# Altium footprint library SparkFun-RF.PCBLIB: 68 footprints (part 3 of 5)
Each footprint in its own frame and in the unit in brackets; x right, y up, seen from the top. Pads: shape width x height; smd on the part's side, far side on the other; paste and mask are expansions set on the pad; w line width, h text height; cw(c..) or ccw(c..) is an arc to the next point about the centre after c.
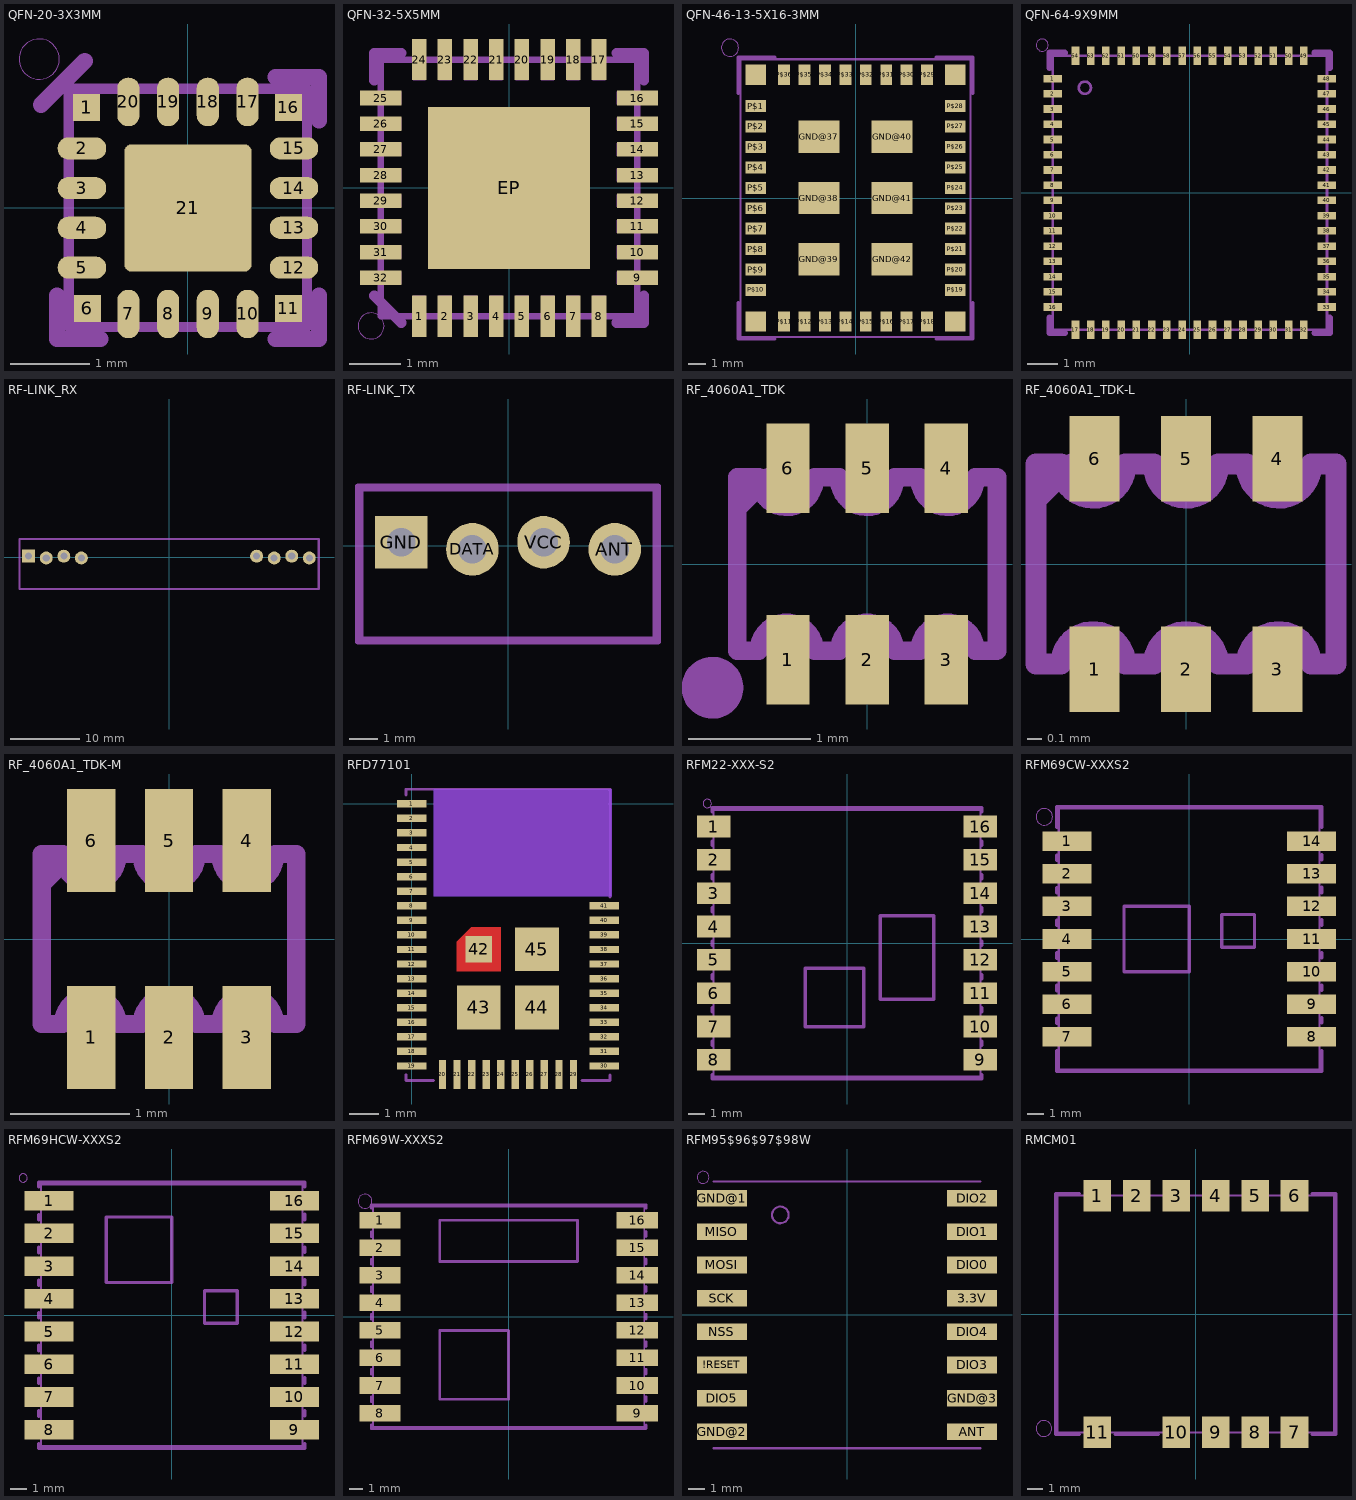
[diagram p2: the footprints below, top view; thin cyan lines are the x and y axes]

## QFN-20-3X3MM [mm]
pads (21):
  rect 0.34x0.34 smd: 1(-1.275,1.265) 6(-1.265,-1.265) 11(1.265,-1.265) 16(1.265,1.265)
  rrect95% 0.61x0.28 smd: 2(-1.335,0.75) 3(-1.335,0.25) 4(-1.335,-0.25) 5(-1.335,-0.75) 12(1.335,-0.75) 13(1.335,-0.25) 14(1.335,0.25) 15(1.335,0.75)
  rrect95% 0.28x0.61 smd: 7(-0.75,-1.335) 8(-0.25,-1.335) 9(0.25,-1.335) 10(0.75,-1.335) 17(0.75,1.335) 18(0.25,1.335) 19(-0.25,1.335) 20(-0.75,1.335)
  rrect10% 1.6x1.6 smd paste+0 mask+0: 21(0,0)
Top Paste:
  region: -0.699,0.101 -0.699,0.676 -0.111,0.676 -0.111,0.101
  region: 0.049,0.104 0.049,0.676 0.66,0.676 0.66,0.104
  region: 0.046,-0.679 0.046,-0.072 0.656,-0.072 0.656,-0.679
  region: -0.692,-0.676 -0.692,-0.062 -0.098,-0.062 -0.098,-0.676
Top Solder:
  region: 0.73,0.73 0.73,-0.73 -0.73,-0.73 -0.73,0.73
tDocu:
  lines w0.127: -1.5,-1.5 1.5,-1.5 1.5,1.5 -1.5,1.5 -1.5,-1.5
tPlace:
  circle w0: c-1.873,1.873 r0.254
  lines w0.203: -1.85,1.3 -1.3,1.85 ; -1.65,-1.1 -1.65,-1.65 -1.1,-1.65 ; 1.1,-1.65 1.65,-1.65 1.65,-1.1 ; 1.1,1.65 1.65,1.65 1.65,1.1

## QFN-32-5X5MM [mil]
pads (33):
  rect 11.2x31.5 smd: 1(-68.9,-98.43) 2(-49.21,-98.43) 3(-29.53,-98.43) 4(-9.84,-98.43) 5(9.84,-98.43) 6(29.53,-98.43) 7(49.21,-98.43) 8(68.9,-98.43) 17(68.9,98.43) 18(49.21,98.43) 19(29.53,98.43) 20(9.84,98.43) 21(-9.84,98.43) 22(-29.53,98.43) 23(-49.21,98.43) 24(-68.9,98.43)
  rect 31.5x11.2 smd: 9(98.43,-68.9) 10(98.43,-49.21) 11(98.43,-29.53) 12(98.43,-9.84) 13(98.43,9.84) 14(98.43,29.53) 15(98.43,49.21) 16(98.43,68.9) 25(-98.43,68.9) 26(-98.43,49.21) 27(-98.43,29.53) 28(-98.43,9.84) 29(-98.43,-9.84) 30(-98.43,-29.53) 31(-98.43,-49.21) 32(-98.43,-68.9)
  rect 124.02x124.02 smd paste+0: EP(0,0)
Top Paste:
  region: -57.09,5.91 -57.09,57.09 -5.91,57.09 -5.91,5.91
  region: 5.91,57.09 57.09,57.09 57.09,5.91 5.91,5.91
  region: -5.91,-57.09 -57.09,-57.09 -57.09,-5.91 -5.91,-5.91
  region: 57.09,-5.91 57.09,-57.09 5.91,-57.09 5.91,-5.91
tDocu:
  region: -98.43,5.12 -98.43,14.57 -82.68,14.57 -82.68,5.12
  region: -98.43,-14.57 -98.43,-5.12 -82.68,-5.12 -82.68,-14.57
  region: -98.43,-34.25 -98.43,-24.8 -82.68,-24.8 -82.68,-34.25
  region: -98.43,-53.94 -98.43,-44.49 -82.68,-44.49 -82.68,-53.94
  region: -98.43,-73.62 -98.43,-64.17 -82.68,-64.17 -82.68,-73.62
  region: -98.43,24.8 -98.43,34.25 -82.68,34.25 -82.68,24.8
  region: -98.43,44.49 -98.43,53.94 -82.68,53.94 -82.68,44.49
  region: -98.43,64.17 -98.43,73.62 -82.68,73.62 -82.68,64.17
  region: 5.12,98.43 14.57,98.43 14.57,82.68 5.12,82.68
  region: -14.57,98.43 -5.12,98.43 -5.12,82.68 -14.57,82.68
  region: -34.25,98.43 -24.8,98.43 -24.8,82.68 -34.25,82.68
  region: -53.94,98.43 -44.49,98.43 -44.49,82.68 -53.94,82.68
  region: -73.62,98.43 -64.17,98.43 -64.17,82.68 -73.62,82.68
  region: 24.8,98.43 34.25,98.43 34.25,82.68 24.8,82.68
  region: 44.49,98.43 53.94,98.43 53.94,82.68 44.49,82.68
  region: 64.17,98.43 73.62,98.43 73.62,82.68 64.17,82.68
  region: -5.12,-98.43 -14.57,-98.43 -14.57,-82.68 -5.12,-82.68
  region: 14.57,-98.43 5.12,-98.43 5.12,-82.68 14.57,-82.68
  region: 34.25,-98.43 24.8,-98.43 24.8,-82.68 34.25,-82.68
  region: 53.94,-98.43 44.49,-98.43 44.49,-82.68 53.94,-82.68
  region: 73.62,-98.43 64.17,-98.43 64.17,-82.68 73.62,-82.68
  region: -24.8,-98.43 -34.25,-98.43 -34.25,-82.68 -24.8,-82.68
  region: -44.49,-98.43 -53.94,-98.43 -53.94,-82.68 -44.49,-82.68
  region: -64.17,-98.43 -73.62,-98.43 -73.62,-82.68 -64.17,-82.68
  region: 98.43,-5.12 98.43,-14.57 82.68,-14.57 82.68,-5.12
  region: 98.43,14.57 98.43,5.12 82.68,5.12 82.68,14.57
  region: 98.43,34.25 98.43,24.8 82.68,24.8 82.68,34.25
  region: 98.43,53.94 98.43,44.49 82.68,44.49 82.68,53.94
  region: 98.43,73.62 98.43,64.17 82.68,64.17 82.68,73.62
  region: 98.43,-24.8 98.43,-34.25 82.68,-34.25 82.68,-24.8
  region: 98.43,-44.49 98.43,-53.94 82.68,-53.94 82.68,-44.49
  region: 98.43,-64.17 98.43,-73.62 82.68,-73.62 82.68,-64.17
  lines w5: -98.43,-98.43 98.43,-98.43 98.43,98.43 -98.43,98.43 -98.43,-98.43
tPlace:
  circle w0: c-105.87,-105.87 r10
  lines w8: -103.43,-82.68 -82.68,-103.43 ; -103.43,82.68 -103.43,103.43 -82.68,103.43 ; 82.68,-103.43 103.43,-103.43 103.43,-82.68 ; 82.68,103.43 103.43,103.43 103.43,82.68

## QFN-46-13-5X16-3MM [mm]
pads (46):
  rect 2.4x1.9 smd: GND@37(-2.15,3.6) GND@38(-2.15,0) GND@39(-2.15,-3.6) GND@40(2.15,3.6) GND@41(2.15,0) GND@42(2.15,-3.6)
  rect 1.2x1.2 smd: GND@43(-5.85,7.25) GND@44(-5.85,-7.25) GND@45(5.85,-7.25) GND@46(5.85,7.25)
  rect 1.2x0.7 smd: P$1(-5.85,5.4) P$2(-5.85,4.2) P$3(-5.85,3) P$4(-5.85,1.8) P$5(-5.85,0.6) P$6(-5.85,-0.6) P$7(-5.85,-1.8) P$8(-5.85,-3) P$9(-5.85,-4.2) P$10(-5.85,-5.4) P$19(5.85,-5.4) P$20(5.85,-4.2) P$21(5.85,-3) P$22(5.85,-1.8) P$23(5.85,-0.6) P$24(5.85,0.6) P$25(5.85,1.8) P$26(5.85,3) P$27(5.85,4.2) P$28(5.85,5.4)
  rect 0.7x1.2 smd: P$11(-4.2,-7.25) P$12(-3,-7.25) P$13(-1.8,-7.25) P$14(-0.6,-7.25) P$15(0.6,-7.25) P$16(1.8,-7.25) P$17(3,-7.25) P$18(4.2,-7.25) P$29(4.2,7.25) P$30(3,7.25) P$31(1.8,7.25) P$32(0.6,7.25) P$33(-0.6,7.25) P$34(-1.8,7.25) P$35(-3,7.25) P$36(-4.2,7.25)
tDocu:
  lines w0.127: -6.75,-8.15 6.75,-8.15 6.75,8.15 -6.75,8.15 -6.75,-8.15
tPlace:
  circle w0: c-7.375,8.829 r0.508
  lines w0.203: -6.877,-6.15 -6.877,-8.277 -4.75,-8.277 ; -6.877,6.15 -6.877,8.277 -4.75,8.277 ; 4.75,-8.277 6.877,-8.277 6.877,-6.15 ; 4.75,8.277 6.877,8.277 6.877,6.15

## QFN-64-9X9MM [mm]
pads (64):
  rect 0.6x0.25 smd: 1(-4.5,3.75) 2(-4.5,3.25) 3(-4.5,2.75) 4(-4.5,2.25) 5(-4.5,1.75) 6(-4.5,1.25) 7(-4.5,0.75) 8(-4.5,0.25) 9(-4.5,-0.25) 10(-4.5,-0.75) 11(-4.5,-1.25) 12(-4.5,-1.75) 13(-4.5,-2.25) 14(-4.5,-2.75) 15(-4.5,-3.25) 16(-4.5,-3.75) 33(4.5,-3.75) 34(4.5,-3.25) 35(4.5,-2.75) 36(4.5,-2.25) 37(4.5,-1.75) 38(4.5,-1.25) 39(4.5,-0.75) 40(4.5,-0.25) 41(4.5,0.25) 42(4.5,0.75) 43(4.5,1.25) 44(4.5,1.75) 45(4.5,2.25) 46(4.5,2.75) 47(4.5,3.25) 48(4.5,3.75)
  rect 0.25x0.6 smd: 17(-3.75,-4.5) 18(-3.25,-4.5) 19(-2.75,-4.5) 20(-2.25,-4.5) 21(-1.75,-4.5) 22(-1.25,-4.5) 23(-0.75,-4.5) 24(-0.25,-4.5) 25(0.25,-4.5) 26(0.75,-4.5) 27(1.25,-4.5) 28(1.75,-4.5) 29(2.25,-4.5) 30(2.75,-4.5) 31(3.25,-4.5) 32(3.75,-4.5) 49(3.75,4.5) 50(3.25,4.5) 51(2.75,4.5) 52(2.25,4.5) 53(1.75,4.5) 54(1.25,4.5) 55(0.75,4.5) 56(0.25,4.5) 57(-0.25,4.5) 58(-0.75,4.5) 59(-1.25,4.5) 60(-1.75,4.5) 61(-2.25,4.5) 62(-2.75,4.5) 63(-3.25,4.5) 64(-3.75,4.5)
tDocu:
  circle w0.09: c-3.442,3.45 r0.2
  lines w0.09: -4.492,-4.5 4.508,-4.5 4.508,4.5 -4.492,4.5 -4.492,-4.5
tPlace:
  circle w0: c-4.842,4.85 r0.2
  lines w0.203: -4.6,-4.1 -4.6,-4.6 -4.1,-4.6 ; -4.6,4.1 -4.6,4.6 -4.1,4.6 ; 4.1,-4.6 4.6,-4.6 4.6,-4.1 ; 4.1,4.6 4.6,4.6 4.6,4.1

## RF-LINK_RX [mil]
pads (8):
  round 74 hole 40: +5V@1(-500,-5) +5V@2(500,5) ANT(800,-5) DATA@1(-700,-5) DATA@2(-600,5) GND@2(600,-5) GND@3(700,5)
  rect 74x74 / inner round 68.37 / far side rect 74x74 hole 40: GND@1(-800,5)
tDocu:
  region: -510,-10 -510,10 -490,10 -490,-10
  region: -610,-10 -610,10 -590,10 -590,-10
  region: -710,-10 -710,10 -690,10 -690,-10
  region: -810,-10 -810,10 -790,10 -790,-10
  region: 790,-10 790,10 810,10 810,-10
  region: 690,-10 690,10 710,10 710,-10
  region: 590,-10 590,10 610,10 610,-10
  region: 490,-10 490,10 510,10 510,-10
  lines w5: -850.39,-177.17 -850.39,98.43 850.39,98.43 850.39,-177.17 -850.39,-177.17
tPlace:
  lines w8: -855.39,-182.17 855.39,-182.17 855.39,103.43 -855.39,103.43 -855.39,-182.17
  text "GND" at -800,-50 h34
  text "DOUT" at -700,-50 h27.2
  text "LOUT" at -600,-50 h27.2
  text "VCC" at -500,-50 h34
  text "VCC" at 500,-50 h34
  text "GND" at 600,-50 h34
  text "GND" at 700,-50 h34
  text "ANT" at 800,-50 h34

## RF-LINK_TX [mil]
pads (4):
  round 74 hole 40: ANT(150,-5) DATA(-50,-5) VCC(50,5)
  rect 74x74 / inner round 68.37 / far side rect 74x74 hole 40: GND(-150,5)
tDocu:
  region: 140,-10 140,10 160,10 160,-10
  region: 40,-10 40,10 60,10 60,-10
  region: -60,-10 -60,10 -40,10 -40,-10
  region: -160,-10 -160,10 -140,10 -140,-10
  lines w5: -205.71,-129.92 -205.71,78.74 205.71,78.74 205.71,-129.92 -205.71,-129.92
tPlace:
  lines w8: -210.71,-134.92 -210.71,83.74 210.71,83.74 210.71,-134.92 -210.71,-134.92
  text "GND" at -150,-40 h27.2
  text "DIN" at -50,-45 h27.2
  text "VCC" at 50,-40 h27.2
  text "ANT" at 150,-40 h27.2

## RF_4060A1_TDK [mil]
pads (6):
  rect 14x29 smd: 1(-25.59,-31) 2(0,-31) 3(25.59,-31) 4(25.59,31) 5(0,31) 6(-25.59,31)
tDocu:
  lines w6: -42,18 -32,28 ; -35,27 ccw(c-26,27.5) -17,28 -9,28 ; -35,28 -42,28 -42,-28 -35,-28 cw(c-26,-28) -17,-28 -9,-28 cw(c0,-28) 9,-28 17,-28 cw(c26,-28) 35,-28 42,-28 42,28 35,28 cw(c26,27.5) 17,27 ; -9,27 ccw(c0,27.5) 9,28 17,28
tPlace:
  circle w10: c-50,-40 r5
  lines w6: -42,-8 -42,8 ; 42,-8 42,8

## RF_4060A1_TDK-L [mil]
pads (6):
  rect 14x24 smd: 1(-25.59,-29.5) 2(0,-29.5) 3(25.59,-29.5) 4(25.59,29.5) 5(0,29.5) 6(-25.59,29.5)
tDocu:
  lines w6: -42,18 -32,28 ; -35,27 ccw(c-26,27.5) -17,28 -9,28 ; -35,28 -42,28 -42,-28 -35,-28 cw(c-26,-28) -17,-28 -9,-28 cw(c0,-28) 9,-28 17,-28 cw(c26,-28) 35,-28 42,-28 42,28 35,28 cw(c26,27.5) 17,27 ; -9,27 ccw(c0,27.5) 9,28 17,28
tPlace:
  lines w6: -42,-9 -42,9 ; 42,-9 42,9

## RF_4060A1_TDK-M [mil]
pads (6):
  rect 16x34 smd: 1(-25.59,-32.5) 2(0,-32.5) 3(25.59,-32.5) 4(25.59,32.5) 5(0,32.5) 6(-25.59,32.5)
tDocu:
  lines w6: -42,18 -32,28 ; -35,27 ccw(c-26,27.5) -17,28 -9,28 ; -35,28 -42,28 -42,-28 -35,-28 cw(c-26,-28) -17,-28 -9,-28 cw(c0,-28) 9,-28 17,-28 cw(c26,-28) 35,-28 42,-28 42,28 35,28 cw(c26,27.5) 17,27 ; -9,27 ccw(c0,27.5) 9,28 17,28
tPlace:
  lines w6: -42,-6 -42,6 ; 42,-6 42,6

## RFD77101 [mm]
pads (45):
  rect 1x0.254 smd: 1(0,0) 2(0,-0.5) 3(0,-1) 4(0,-1.5) 5(0,-2) 6(0,-2.5) 7(0,-3) 8(0,-3.5) 9(0,-4) 10(0,-4.5) 11(0,-5) 12(0,-5.5) 13(0,-6) 14(0,-6.5) 15(0,-7) 16(0,-7.5) 17(0,-8) 18(0,-8.5) 19(0,-9) 30(6.61,-9) 31(6.61,-8.5) 32(6.61,-8) 33(6.61,-7.5) 34(6.61,-7) 35(6.61,-6.5) 36(6.61,-6) 37(6.61,-5.5) 38(6.61,-5) 39(6.61,-4.5) 40(6.61,-4) 41(6.61,-3.5)
  rect 0.254x1 smd: 20(1.055,-9.29) 21(1.555,-9.29) 22(2.055,-9.29) 23(2.555,-9.29) 24(3.055,-9.29) 25(3.555,-9.29) 26(4.055,-9.29) 27(4.555,-9.29) 28(5.055,-9.29) 29(5.555,-9.29)
  rect 0.9x0.9 smd paste+0 mask+0: 42(2.3,-4.99)
  rect 1.5x1.5 smd paste+0: 43(2.3,-6.99) 44(4.3,-6.99) 45(4.3,-4.99)
Top:
  region: 3.05,-5.74 1.55,-5.74 1.55,-4.73 2.04,-4.24 3.05,-4.24
Top keep-out:
  region: 0.762,-3.175 0.762,0.508 6.858,0.508 6.858,-3.175
Bottom keep-out:
  region: 0.762,-3.175 0.762,0.508 6.858,0.508 6.858,-3.175
Top Paste:
  circle w0: c2.337,-4.953 r0.305
  circle w0: c4.293,-4.953 r0.305
  circle w0: c4.318,-6.985 r0.305
  circle w0: c2.286,-6.96 r0.305
Top Solder:
  region: 3.15,-4.14 1.96,-4.14 1.45,-4.65 1.45,-5.84 3.15,-5.84
tPlace:
  lines w0.1: -0.195,-9.301 -0.195,-9.5 0.749,-9.5 ; -0.195,0.305 -0.195,0.5 6.805,0.5 6.805,-3.2 ; 5.851,-9.5 6.805,-9.5 6.805,-9.302

## RFM22-XXX-S2 [mm]
pads (16):
  rect 2x1.3 smd: 1(-8,7) 2(-8,5) 3(-8,3) 4(-8,1) 5(-8,-1) 6(-8,-3) 7(-8,-5) 8(-8,-7) 9(8,-7) 10(8,-5) 11(8,-3) 12(8,-1) 13(8,1) 14(8,3) 15(8,5) 16(8,7)
tDocu:
  lines w0.127: -8,-8 -8,8 8,8 8,-8 -8,-8
  lines w0.203: -2.5,-5 1,-5 1,-1.5 -2.5,-1.5 -2.5,-5 ; 2,-3.35 2,1.65 5.2,1.65 5.2,-3.35 2,-3.35
  text "Crystal" at 4,-3 h1.24
  text "IC" at -1.2,-3.6 h1.24
tPlace:
  circle w0: c-8.382,8.382 r0.254
  lines w0.203: -8.1,-8.127 8.1,-8.127 8.1,-7.875 ; -8.1,-8.125 -8.1,-7.873 ; -8.1,-6.125 -8.1,-5.873 ; -8.1,-4.125 -8.1,-3.873 ; -8.1,-2.125 -8.1,-1.873 ; -8.1,-0.125 -8.1,0.127 ; -8.1,1.875 -8.1,2.127 ; -8.1,3.875 -8.1,4.127 ; -8.1,5.875 -8.1,6.127 ; -8.1,7.875 -8.1,8.127 8.1,8.127 ; 8.1,-6.127 8.1,-5.875 ; 8.1,-4.127 8.1,-3.875 ; 8.1,-2.127 8.1,-1.875 ; 8.1,-0.127 8.1,0.125 ; 8.1,1.873 8.1,2.125 ; 8.1,3.873 8.1,4.125 ; 8.1,5.873 8.1,6.125 ; 8.1,7.873 8.1,8.125

## RFM69CW-XXXS2 [mm]
pads (14):
  rect 3x1.2 smd: 1(-7.5,6) 2(-7.5,4) 3(-7.5,2) 4(-7.5,0) 5(-7.5,-2) 6(-7.5,-4) 7(-7.5,-6) 8(7.5,-6) 9(7.5,-4) 10(7.5,-2) 11(7.5,0) 12(7.5,2) 13(7.5,4) 14(7.5,6)
tDocu:
  lines w0.127: -8,-8 8,-8 8,8 -8,8 -8,-8
  lines w0.203: -4,-2 -4,2 0,2 0,-2 -4,-2 ; 2,-0.5 2,1.5 4,1.5 4,-0.5 2,-0.5
  text "1" at -5.485,5.35 h1.97
tPlace:
  circle w0: c-8.889,7.492 r0.508
  lines w0.203: -8.127,-6.859 -8.127,-8.127 8.127,-8.127 8.127,-6.859 ; -8.127,-5.174 -8.127,-4.844 ; -8.127,-3.174 -8.127,-2.844 ; -8.127,-1.174 -8.127,-0.844 ; -8.127,0.826 -8.127,1.156 ; -8.127,2.826 -8.127,3.156 ; -8.127,4.826 -8.127,5.156 ; -8.127,6.859 -8.127,8.127 8.127,8.127 8.127,6.859 ; 8.127,-5.156 8.127,-4.826 ; 8.127,-3.156 8.127,-2.826 ; 8.127,-1.156 8.127,-0.826 ; 8.127,0.844 8.127,1.174 ; 8.127,2.844 8.127,3.174 ; 8.127,4.844 8.127,5.174

## RFM69HCW-XXXS2 [mm]
pads (16):
  rect 3x1.2 smd: 1(-7.5,7) 2(-7.5,5) 3(-7.5,3) 4(-7.5,1) 5(-7.5,-1) 6(-7.5,-3) 7(-7.5,-5) 8(-7.5,-7) 9(7.5,-7) 10(7.5,-5) 11(7.5,-3) 12(7.5,-1) 13(7.5,1) 14(7.5,3) 15(7.5,5) 16(7.5,7)
tDocu:
  lines w0.127: -8,-8 8,-8 8,8 -8,8 -8,-8
tPlace:
  circle w0: c-9.089,8.392 r0.254
  lines w0.203: -8.127,-7.859 -8.127,-8.127 8.127,-8.127 8.127,-7.859 ; -8.127,-6.174 -8.127,-5.844 ; -8.127,-4.174 -8.127,-3.844 ; -8.127,-2.174 -8.127,-1.844 ; -8.127,-0.174 -8.127,0.156 ; -8.127,1.826 -8.127,2.156 ; -8.127,3.826 -8.127,4.156 ; -8.127,5.826 -8.127,6.156 ; -8.127,7.859 -8.127,8.127 8.127,8.127 8.127,7.859 ; 8.127,-6.156 8.127,-5.826 ; 8.127,-4.156 8.127,-3.826 ; 8.127,-2.156 8.127,-1.826 ; 8.127,-0.156 8.127,0.174 ; 8.127,1.844 8.127,2.174 ; 8.127,3.844 8.127,4.174 ; 8.127,5.844 8.127,6.174 ; -4,2 -4,6 0,6 0,2 -4,2 ; 2,-0.5 2,1.5 4,1.5 4,-0.5 2,-0.5

## RFM69W-XXXS2 [mm]
pads (16):
  rect 3x1.2 smd: 1(-9.35,7) 2(-9.35,5) 3(-9.35,3) 4(-9.35,1) 5(-9.35,-1) 6(-9.35,-3) 7(-9.35,-5) 8(-9.35,-7) 9(9.35,-7) 10(9.35,-5) 11(9.35,-3) 12(9.35,-1) 13(9.35,1) 14(9.35,3) 15(9.35,5) 16(9.35,7)
tDocu:
  lines w0.127: -9.85,-8 9.85,-8 9.85,8 -9.85,8 -9.85,-8
  lines w0.203: -5,-6 -5,-1 0,-1 0,-6 -5,-6 ; -5,4 -5,7 5,7 5,4 -5,4
  text "1" at -6.985,6.35 h1.08
tPlace:
  circle w0: c-10.435,8.381 r0.508
  lines w0.203: -9.977,-7.875 -9.977,-8.127 9.977,-8.127 9.977,-7.875 ; -9.977,-6.183 -9.977,-5.828 ; -9.977,-4.183 -9.977,-3.828 ; -9.977,-2.183 -9.977,-1.828 ; -9.977,-0.183 -9.977,0.172 ; -9.977,1.817 -9.977,2.172 ; -9.977,3.817 -9.977,4.172 ; -9.977,5.817 -9.977,6.172 ; -9.977,7.875 -9.977,8.127 9.977,8.127 9.977,7.875 ; 9.977,-6.172 9.977,-5.817 ; 9.977,-4.172 9.977,-3.817 ; 9.977,-2.172 9.977,-1.817 ; 9.977,-0.172 9.977,0.183 ; 9.977,1.828 9.977,2.183 ; 9.977,3.828 9.977,4.183 ; 9.977,5.828 9.977,6.183

## RFM95$96$97$98W [mm]
pads (16):
  rect 3x1 smd: 3.3V(7.5,1) !RESET(-7.5,-3) ANT(7.5,-7) DIO0(7.5,3) DIO1(7.5,5) DIO2(7.5,7) DIO3(7.5,-3) DIO4(7.5,-1) DIO5(-7.5,-5) GND@1(-7.5,7) GND@2(-7.5,-7) GND@3(7.5,-5) MISO(-7.5,5) MOSI(-7.5,3) NSS(-7.5,-1) SCK(-7.5,1)
tPlace:
  circle w0.127: c-4,6 r0.5
  circle w0: c-8.636,8.255 r0.359
  lines w0.127: -8,-8 8,-8 ; -8,8 8,8

## RMCM01 [mil]
pads (11):
  rect 70x80 smd: 1(-250,300) 2(-150,300) 3(-50,300) 4(50,300) 5(150,300) 6(250,300) 7(250,-300) 8(150,-300) 9(50,-300) 10(-50,-300) 11(-250,-300)
tDocu:
  lines w5: -350,-300 -350,300 350,300 350,-300 -350,-300
tPlace:
  circle w0: c-385,-290 r20
  lines w8: -295,-305 -355,-305 -355,305 -295,305 ; -205,-305 -95,-305 ; 295,-305 355,-305 355,305 295,305